# Altium integrated library TUNA_Altium_Lib.IntLib: 69 symbols (part 1 of 2)
Pins are listed as number, name and electrical type; pins without a type are passive.

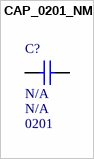
[diagram p0: symbol CAP_0201_NM]

## CAP_0201_NM
designator C?, comment Package / Case: 0201  (hidden comment: CAP 0201)
CAP, size 0201, NM, N/A; Supplier URL: N/A; Tolerance: N/A; Supplier: N/A; Supplier Part Number: N/A; ComponentLink1Description: Datasheet; ComponentLink1URL: N/A; Mount: SMD/SMT; Operating Temperature Max: + 85 C; Operating Temperature Min: - 40 C; Packaging: Tape and Reel; Voltage Rating DC: N/A; Capacitance: N/A
footprint CAP_0201
pins: 1, 2


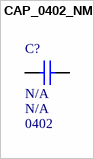
[diagram p1: symbol CAP_0402_NM]

## CAP_0402_NM
designator C?, comment Package / Case: 0402  (hidden comment: CAP 0402)
CAP, size 0402, NM, N/A; Supplier URL: N/A; Tolerance: N/A; Supplier: N/A; Supplier Part Number: N/A; ComponentLink1Description: Datasheet; ComponentLink1URL: N/A; Mount: SMD/SMT; Operating Temperature Max: + 85 C; Operating Temperature Min: - 40 C; Packaging: Tape and Reel; Voltage Rating DC: N/A; Capacitance: N/A
footprint CAP_0402
pins: 1, 2


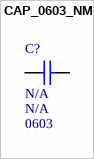
[diagram p2: symbol CAP_0603_NM]

## CAP_0603_NM
designator C?, comment Package / Case: 0603  (hidden comment: CAP_0603)
CAP, size 0603, NM, N/A; Packaging: Tape and Reel; Supplier URL: N/A; Tolerance: N/A; Supplier: N/A; Supplier Part Number: N/A; ComponentLink1Description: Datasheet; ComponentLink1URL: N/A; Mount: SMD/SMT; Operating Temperature Max: + 85 C; Operating Temperature Min: - 40 C; Voltage Rating DC: N/A; Capacitance: N/A
footprint CAP_0603
pins: 1, 2


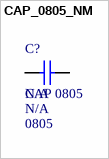
[diagram p3: symbol CAP_0805_NM]

## CAP_0805_NM
designator C?, comment CAP 0805  Package / Case: 0805
CAP, size 0805, NM, N/A; Packaging: Tape and Reel; Supplier 1: N/A; Supplier 1 Part Number: N/A; Supplier 1 URL: N/A; Tolerance: N/A; ComponentLink1Description: Datasheet; ComponentLink1URL: N/A; Mount: SMD/SMT; Operating Temperature Max: + 85 C; Operating Temperature Min: - 40 C; Voltage Rating DC: N/A; Capacitance: N/A
footprint CAP_0805
pins: 1, 2


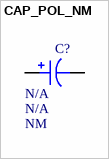
[diagram p4: symbol CAP_POL_NM]

## CAP_POL_NM
designator C?, comment Material: NM  (hidden comment: N/A)
CAP, size NM, NM, N/A; Packaging: Tape and Reel; Supplier URL: N/A; Tolerance: N/A; Supplier: N/A; Supplier Part Number: N/A; ComponentLink1Description: Datasheet; ComponentLink1URL: N/A; Mount: SMD/SMT; Operating Temperature Max: + 85 C; Operating Temperature Min: - 40 C; Package / Case: N/A; Voltage Rating DC: N/A; Capacitance: N/A
footprint CAP TAN 1411 (Molded Capacitor, 2-Leads, Body 3.50x2.80mm, IPC Medium Density)
footprint CAP TAN 1206 (Molded Capacitor, 2-Leads, Body 3.20x1.6mm, IPC Medium Density)
footprint CAP POL 2917 (Molded Capacitor, 2-Leads, Body 7.30x4.30mm, IPC Medium Density)
pins: 1, 2


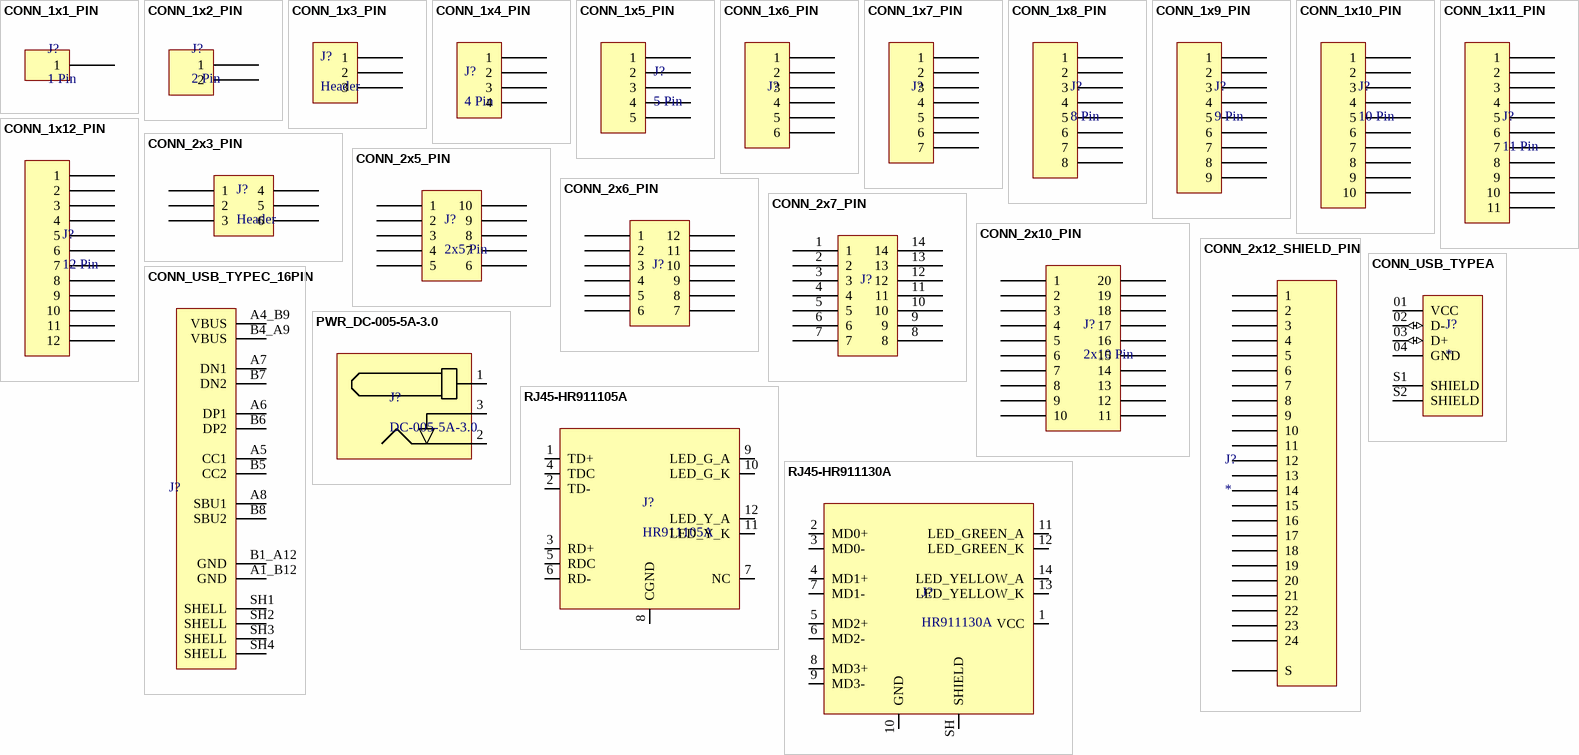
[diagram p5: symbols CONN_1x1_PIN to RJ45-HR911130A]

## CONN_1x1_PIN
designator J?, comment 1 Pin
pins: 1

## CONN_1x2_PIN
designator J?, comment 2 Pin
pins: 1, 2

## CONN_1x3_PIN
designator J?, comment Header
pins: 1, 2, 3

## CONN_1x4_PIN
designator J?, comment 4 Pin
pins: 1, 2, 3, 4

## CONN_1x5_PIN
designator J?, comment 5 Pin
pins: 1, 2, 3, 4, 5

## CONN_1x6_PIN
designator J?
pins: 1, 2, 3, 4, 5, 6

## CONN_1x7_PIN
designator J?
pins: 1, 2, 3, 4, 5, 6, 7

## CONN_1x8_PIN
designator J?, comment 8 Pin
pins: 1, 2, 3, 4, 5, 6, 7, 8

## CONN_1x9_PIN
designator J?, comment 9 Pin
pins: 1, 2, 3, 4, 5, 6, 7, 8, 9

## CONN_1x10_PIN
designator J?, comment 10 Pin
pins: 1, 2, 3, 4, 5, 6, 7, 8, 9, 10

## CONN_1x11_PIN
designator J?, comment 11 Pin
pins: 1, 2, 3, 4, 5, 6, 7, 8, 9, 10, 11

## CONN_1x12_PIN
designator J?, comment 12 Pin
pins: 1, 2, 3, 4, 5, 6, 7, 8, 9, 10, 11, 12

## CONN_2x3_PIN
designator J?, comment Header
pins: 1, 2, 3, 4, 5, 6

## CONN_2x5_PIN
designator J?, comment 2x5 Pin
pins: 1, 2, 3, 4, 5, 6, 7, 8, 9, 10

## CONN_2x6_PIN
designator J?
pins: 1, 2, 3, 4, 5, 6, 7, 8, 9, 10, 11, 12

## CONN_2x7_PIN
designator J?
pins: 1, 2, 3, 4, 5, 6, 7, 8, 9, 10, 11, 12, 13, 14

## CONN_2x10_PIN
designator J?, comment 2x10 Pin
pins: 1, 2, 3, 4, 5, 6, 7, 8, 9, 10, 11, 12, 13, 14, 15, 16, 17, 18, 19, 20

## CONN_2x12_SHIELD_PIN
designator J?
pins: 1, 2, 3, 4, 5, 6, 7, 8, 9, 10, 11, 12, 13, 14, 15, 16, 17, 18, 19, 20, 21, 22, 23, 24, S

## CONN_USB_TYPEA
designator J?
USB Connectors USB 2.0 Interface, Type A; MP: USB-A-S-F-B-TH-TR; MF: Samtec; SnapEDA_Link: https://www.snapeda.com/parts/USB-A-S-F-B-TH-TR/Samtec/view-part/?ref=snap; Package: None; Supplier: N/A; Supply PN: N/A; Supply URL: N/A
footprint CONN_USBA-S-X-X-TH (thegioiic)
pins: 01 VCC (power), 02 D- (io), 03 D+ (io), 04 GND (power), S1 SHIELD, S2 SHIELD

## CONN_USB_TYPEC_16PIN
designator J?  (value not drawn)
USB-C (USB TYPE-C) USB 2.0 Receptacle Connector 24 (16+8 Dummy) Position Surface Mount, Right Angle; Through Hole; MP: USB4105-GF-A; Value: USB-C 2.0 24-Pin (16+8 Dummy); Package: None; Price: None; Availability: Unavailable; ComponentLink1Description: Buy; ComponentLink1URL: https://www.thegioiic.com/cong-usb-cai-3-1-type-c-16-chan-thang-dan-smd; Supplier: N/A; Supplier PN: N/A; Supplier URL: *
footprint CONN_USB_TYPEC_16PIN
pins: A1_B12 GND, A4_B9 VBUS, A5 CC1, A6 DP1, A7 DN1, A8 SBU1, B1_A12 GND, B4_A9 VBUS, B5 CC2, B6 DP2, B7 DN2, B8 SBU2, SH1 SHELL, SH2 SHELL, SH3 SHELL, SH4 SHELL

## PWR_DC-005-5A-3.0
designator J?, comment DC-005-5A-3.0
DC Barrell Jack 6.2mm 5 A3.0mm Through Hole; Supplier: N/A; Supplier Part Number: DC-005-5A-3.0; Supplier URL: N/A
footprint CONN_PWR_DC-005-5A-3.0
pins: 1, 2, 3

## RJ45-HR911105A
designator J?, comment HR911105A
Single Port RJ45 Connector w/ Integrated Magnetic and LED 10/100 Base-T; Manufacturer: HanRun; Manufacturer Part Number: HR911105A
footprint CONN_RJ45_HANRUN_HR911105A
pins: 1 TD+, 2 TD-, 3 RD+, 4 TDC, 5 RDC, 6 RD-, 7 NC, 8 CGND, 9 LED_G_A, 10 LED_G_K, 11 LED_Y_K, 12 LED_Y_A

## RJ45-HR911130A
designator J?, comment HR911130A
Single-Port RJ45 Connector with Integrated Magnetics and LEDs,100/1000Base-T Magnetics; Manufacturer: Hanrun; Manufacturer Part Number: HR911130A
footprint CONN_RJ45_HANRUN_HR911130A
pins: 1 VCC, 2 MD0+, 3 MD0-, 4 MD1+, 5 MD2+, 6 MD2-, 7 MD1-, 8 MD3+, 9 MD3-, 10 GND, 11 LED_GREEN_A, 12 LED_GREEN_K, 13 LED_YELLOW_K, 14 LED_YELLOW_A, SH SHIELD


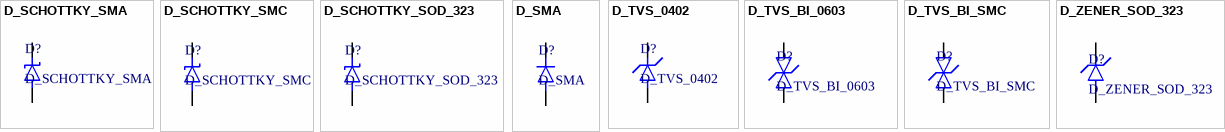
[diagram p6: symbols D_SCHOTTKY_SMA to D_ZENER_SOD_323]

## D_SCHOTTKY_SMA
designator D?
Diode Schottky SMD SMA (DO-214AA)
footprint DO-214AC-2 (SMA)
pins: A, K

## D_SCHOTTKY_SMC
designator D?
Diode Schottky SMD SMC (DO-214AB); Distributor Link: *
footprint SMC-DO-214AB
pins: A, K

## D_SCHOTTKY_SOD_323
designator D?
Diode Schottky SMD SOD-323
footprint SOD-323
pins: A, K

## D_SMA
designator D?
Diode SMD SMA (DO-214AA)
footprint DO-214AC-2 (SMA)
pins: A, K

## D_TVS_0402
designator D?
Diode TVS / ESD 0402
footprint DO_0402
pins: A, K

## D_TVS_BI_0603
designator D?
Diode TVS / ESD Bidirectional 0603; Manufacturer: *; Manufacturer Part Number: *
footprint D_0603
pins: A, K

## D_TVS_BI_SMC
designator D?
Diode TVS / ESD Bidirectional SMC (DO-214AB); Manufacturer: *; Manufacturer Part Number: *; Distributor Link: *
footprint SMC-DO-214AB
pins: A, K

## D_ZENER_SOD_323
designator D?
Diode Zener SMD SOD-323; Supplier URL: N/A
footprint SOD-323
pins: A, K


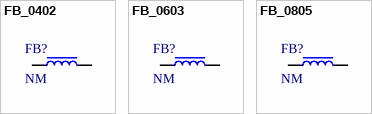
[diagram p7: symbols FB_0402 to FB_0805]

## FB_0402
designator FB?, comment NM
Ferrite Bead SMD 0402; Supplier backup URL: N/A; Packaging: Tape and Reel; Supplier: N/A; Supplier Part Number: N/A; Supplier backup: N/A; Supplier backup Part Number: N/A; Tolerance: N/A; Manufacturer: N/A; Manufacturer Part Number: N/A; ComponentLink1Description: Datasheet; ComponentLink1URL: N/A; Mount: SMD/SMT; Operating Temperature Max: + 85 C; Operating Temperature Min: - 40 C; Package / Case: 0402; Value: NM; Supplier URL: N/A
footprint RES_0201
pins: 1, 2

## FB_0603
designator FB?, comment NM
Ferrite Bead SMD 0603; Supplier backup URL: N/A; Packaging: Tape and Reel; Supplier: N/A; Supplier Part Number: N/A; Supplier backup: N/A; Supplier backup Part Number: N/A; Tolerance: N/A; Manufacturer: N/A; Manufacturer Part Number: N/A; ComponentLink1Description: Datasheet; ComponentLink1URL: N/A; Mount: SMD/SMT; Operating Temperature Max: + 85 C; Operating Temperature Min: - 40 C; Package / Case: 0603; Value: NM; Supplier URL: N/A
footprint FB_0603
pins: 1, 2

## FB_0805
designator FB?, comment NM
Ferrite Bead SMD 0805; Supplier backup URL: N/A; Packaging: Tape and Reel; Supplier: N/A; Supplier Part Number: N/A; Supplier backup: N/A; Supplier backup Part Number: N/A; Tolerance: N/A; Manufacturer: N/A; Manufacturer Part Number: N/A; ComponentLink1Description: Datasheet; ComponentLink1URL: N/A; Mount: SMD/SMT; Operating Temperature Max: + 85 C; Operating Temperature Min: - 40 C; Package / Case: 0805; Value: NM; Supplier URL: N/A
footprint FB_0805
pins: 1, 2


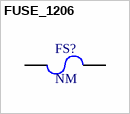
[diagram p8: symbol FUSE_1206]

## FUSE_1206
designator FS?, comment NM
Fuse; Supplier backup URL: N/A; Packaging: Tape and Reel; Supplier: N/A; Supplier Part Number: N/A; Supplier backup: N/A; Supplier backup Part Number: N/A; Tolerance: N/A; Manufacturer: N/A; Manufacturer Part Number: N/A; ComponentLink1Description: Datasheet; ComponentLink1URL: N/A; Mount: SMD/SMT; Operating Temperature Max: + 85 C; Operating Temperature Min: - 40 C; Package / Case: 0402; Value: NM; Supplier URL: N/A
footprint FUSE_1206
footprint FUSE_1812
pins: 1, 2


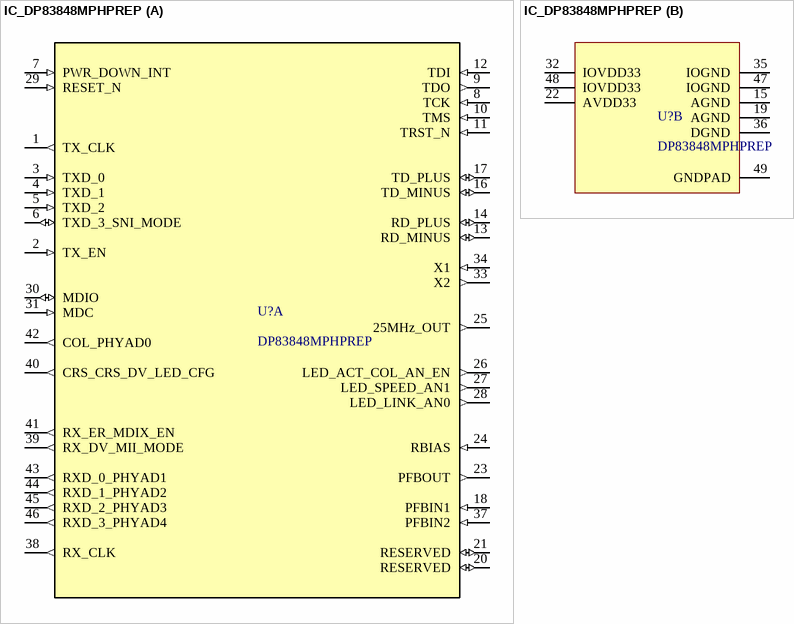
[diagram p9: symbol IC_DP83848MPHPREP]

## IC_DP83848MPHPREP
designator U?, comment DP83848MPHPREP
Enhanced Product PHYTER extreme temperature single port 10/100 Mb/s Ethernet physical layer 48-HTQFP -55 to 125; Manufacturer_Name: Texas Instruments; Alternate_Manufacturer: None; CurrentTime: Not shown in title block; DocumentNumber: 1; SymbolCreator: a0411947; CompType: IC; U/M: EA; Designator: U?; Copyright: Copyright (C) 2025 Ultra Librarian. All rights reserved.; Manufacturer_Part_Number: DP83848MPHPREP; CurrentDate: Not shown in title block; Time: Not shown in title block; Date: Not shown in title block; DocumentFullPathAndName: Not shown in title block; DocumentName: Not shown in title block; ModifiedDate: Not shown in title block; ApprovedBy: Not shown in title block; CheckedBy: Not shown in title block; Author: Not shown in title block; CompanyName: Not shown in title block; Engineer: Not shown in title block; Organization: Not shown in title block; Address1: Not shown in title block; Address2: Not shown in title block; Address3: Not shown in title block; Address4: Not shown in title block; Revision: Use project parameter SCH_Rev; SheetNumber: 1; SheetTotal: 1; ImagePath: Not shown in title block; Rule: *; ProjectName: *; SymbolVersion: 2014-04-03; PartNumber: DP83848MPHPREP; PackageReference: PHP0048F; MountType: SMT; ComponentLink1Description: Datasheet Link; ComponentLink1URL: https://sps06.itg.ti.com/sites/KMS/crossdivteams/altium/docs/ComponentDatasheets/dp83848-ep.pdf; RoHS: Y; Publisher: Texas Instruments; LatestRevisionDate: 2014-04-03; Manufacturer: Texas Instruments; Refdes: Refdes; Type: Type
footprint TI_PHY_DP83848-EP (IC TRANSCEIVER 1/1 48HTQFP)
part A pins: 1 TX_CLK (out), 2 TX_EN (in), 3 TXD_0 (in), 4 TXD_1 (in), 5 TXD_2 (in), 6 TXD_3_SNI_MODE (io), 7 PWR_DOWN_INT (in), 8 TCK (in), 9 TDO (out), 10 TMS (in), 11 TRST_N (in), 12 TDI (in), 13 RD_MINUS (io), 14 RD_PLUS (io), 16 TD_MINUS (io), 17 TD_PLUS (io), 18 PFBIN1 (in), 20 RESERVED (io), 21 RESERVED (io), 23 PFBOUT (out), 24 RBIAS (in), 25 25MHz_OUT (out), 26 LED_ACT_COL_AN_EN (out), 27 LED_SPEED_AN1 (out), 28 LED_LINK_AN0 (out), 29 RESET_N (in), 30 MDIO (io), 31 MDC (in), 33 X2 (out), 34 X1 (in), 37 PFBIN2 (in), 38 RX_CLK (out), 39 RX_DV_MII_MODE (out), 40 CRS_CRS_DV_LED_CFG (out), 41 RX_ER_MDIX_EN (out), 42 COL_PHYAD0 (out), 43 RXD_0_PHYAD1 (out), 44 RXD_1_PHYAD2 (out), 45 RXD_2_PHYAD3 (out), 46 RXD_3_PHYAD4 (out)
part B pins: 15 AGND (power), 19 AGND (power), 22 AVDD33 (power), 32 IOVDD33 (power), 35 IOGND (power), 36 DGND (power), 47 IOGND (power), 48 IOVDD33 (power), 49 GNDPAD (power)


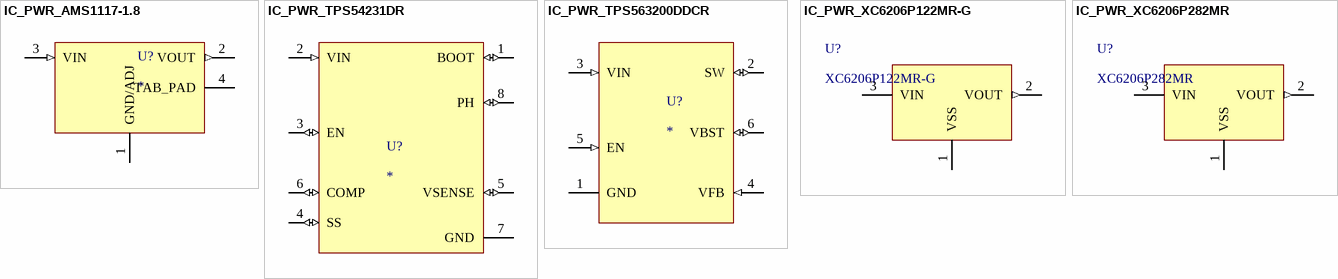
[diagram p10: symbols IC_PWR_AMS1117-1.8 to IC_PWR_XC6206P282MR]

## IC_PWR_AMS1117-1.8
designator U?
1.8V 1A  Adjustable/Fixed Low Dropout Linear Regulator; MP: AMS1117-1.8; Package: None; Price: None; Value: *; Availability: Unavailable
footprint PKG_SOT-233
pins: 1 GND/ADJ (power), 2 VOUT (out), 3 VIN (in), 4 TAB_PAD

## IC_PWR_TPS54231DR
designator U?
3.5 to 28V Input, 2A, 570kHz Step-Down Converter with Eco-modeâ„¢; Package: SOIC-8 Texas Instruments; Supplier: *; Supplier Part Number: *; Supplier URL: *
footprint PKG_SOIC-8 (SOIC, 8-Leads, Body 4.91x3.90mm, Pitch 1.27mm, IPC Medium Density)
pins: 1 BOOT (io), 2 VIN (in), 3 EN (io), 4 SS (io), 5 VSENSE (io), 6 COMP (io), 7 GND (power), 8 PH (io)

## IC_PWR_TPS563200DDCR
designator U?
17 V Input, 3A Synchronous Step-Down Regulator in SOT-23 with Advanced Eco-modeâ„¢; MF: Texas Instruments; MP: TPS563200DDCR; SnapEDA_Link: https://www.snapeda.com/parts/TPS563200DDCR/Texas+Instruments/view-part/?ref=snap; Package: SOT-23-THN-6 Texas Instruments; Value: *; Check_prices: https://www.snapeda.com/parts/TPS563200DDCR/Texas+Instruments/view-part/?ref=eda
footprint PKG_SOT-23-6
pins: 1 GND (power), 2 SW (io), 3 VIN (in), 4 VFB (in), 5 EN (in), 6 VBST (io)

## IC_PWR_XC6206P122MR-G
designator U?, comment XC6206P122MR-G
IC REG LINEAR 1.2V 60MA SOT23; Manufacturer_Name: Torex Semiconductor; Copyright: Copyright (C) 2025 Ultra Librarian. All rights reserved.; Manufacturer_Part_Number: XC6206P122MR-G; RefDes: RefDes; Type: Type
footprint PKG_SOT-23-3
pins: 1 VSS (power), 2 VOUT (out), 3 VIN (power)

## IC_PWR_XC6206P282MR
designator U?, comment XC6206P282MR
IC REG LINEAR 2.8V 100MA SOT23; Manufacturer_Name: Torex Semiconductor; Manufacturer_Part_Number: XC6206P122MR-G; Copyright: Copyright (C) 2025 Ultra Librarian. All rights reserved.; RefDes: RefDes; Type: Type
footprint PKG_SOT-23-3
pins: 1 VSS (power), 2 VOUT (out), 3 VIN (power)


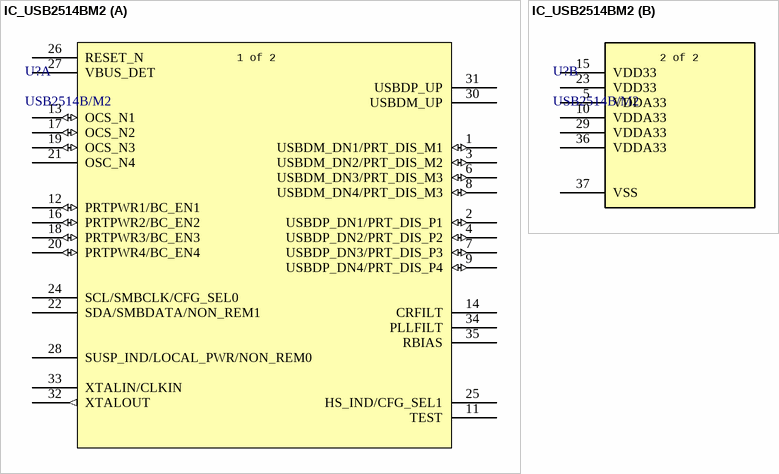
[diagram p11: symbol IC_USB2514BM2]

## IC_USB2514BM2
designator U?, comment USB2514B/M2
Description; Manufacturer_Name: Microchip; Copyright: Copyright (C) 2025 Ultra Librarian. All rights reserved.; Manufacturer_Part_Number: USB2514B/M2; RefDes: RefDes; Type: Type
footprint MC_MCU_USB2514BM2 (IC HUB CTLR 4PORT USB 2.0 HS 36S)
part A pins: 1 USBDM_DN1/PRT_DIS_M1 (io), 2 USBDP_DN1/PRT_DIS_P1 (io), 3 USBDM_DN2/PRT_DIS_M2 (io), 4 USBDP_DN2/PRT_DIS_P2 (io), 6 USBDM_DN3/PRT_DIS_M3 (io), 7 USBDP_DN3/PRT_DIS_P3 (io), 8 USBDM_DN4/PRT_DIS_M3 (io), 9 USBDP_DN4/PRT_DIS_P4 (io), 11 TEST, 12 PRTPWR1/BC_EN1 (io), 13 OCS_N1 (io), 14 CRFILT, 16 PRTPWR2/BC_EN2 (io), 17 OCS_N2 (io), 18 PRTPWR3/BC_EN3 (io), 19 OCS_N3 (io), 20 PRTPWR4/BC_EN4 (io), 21 OSC_N4, 22 SDA/SMBDATA/NON_REM1, 24 SCL/SMBCLK/CFG_SEL0, 25 HS_IND/CFG_SEL1, 26 RESET_N, 27 VBUS_DET, 28 SUSP_IND/LOCAL_PWR/NON_REM0, 30 USBDM_UP, 31 USBDP_UP, 32 XTALOUT (out), 33 XTALIN/CLKIN, 34 PLLFILT, 35 RBIAS
part B pins: 5 VDDA33 (power), 10 VDDA33 (power), 15 VDD33 (power), 23 VDD33 (power), 29 VDDA33 (power), 36 VDDA33 (power), 37 VSS (power)
part A text: 1 of 2
part B text: 2 of 2


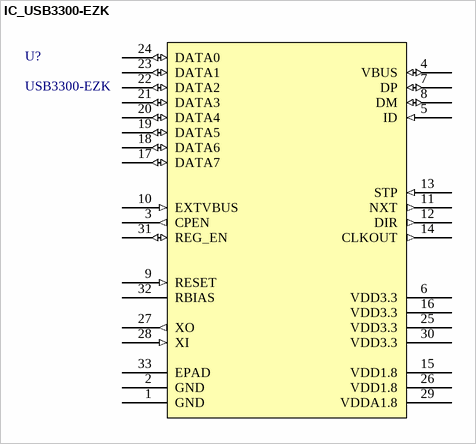
[diagram p12: symbol IC_USB3300-EZK]

## IC_USB3300-EZK
designator U?, comment USB3300-EZK
Description; Manufacturer_Name: Microchip; Copyright: Copyright (C) 2025 Ultra Librarian. All rights reserved.; Manufacturer_Part_Number: USB3300-EZK; RefDes: RefDes; Type: Type
footprint PKG_QFN-32-5X5
pins: 1 GND (power), 2 GND (power), 3 CPEN (out), 4 VBUS (io), 5 ID (in), 6 VDD3.3 (power), 7 DP (io), 8 DM (io), 9 RESET (in), 10 EXTVBUS (in), 11 NXT (out), 12 DIR (out), 13 STP (in), 14 CLKOUT (out), 15 VDD1.8 (power), 16 VDD3.3 (power), 17 DATA7 (io), 18 DATA6 (io), 19 DATA5 (io), 20 DATA4 (io), 21 DATA3 (io), 22 DATA2 (io), 23 DATA1 (io), 24 DATA0 (io), 25 VDD3.3 (power), 26 VDD1.8 (power), 27 XO (out), 28 XI (in), 29 VDDA1.8 (power), 30 VDD3.3 (power), 31 REG_EN (io), 32 RBIAS, 33 EPAD


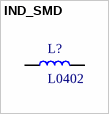
[diagram p13: symbol IND_SMD]

## IND_SMD
designator L?, comment L0402
Inductor SMD; Inductance: NM; Current: NM; Supplier: NM; Supplier Part Number: NM; Supplier URL: NM
footprint IND_0402
footprint IND_0603
footprint IND_BOURNS_SRN8040
pins: 1, 2


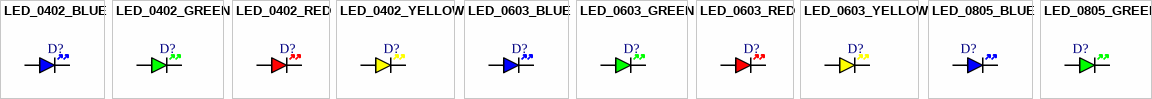
[diagram p14: symbols LED_0402_BLUE to LED_0805_GREEN]

## LED_0402_BLUE
designator D?, comment BLUE  (value not drawn)
LED 0402 BLUE SMD; COLOR: BLUE; SIZE: 0402; Supplier: N/A; Supplier Part Number: N/A; Supplier URL: N/A
footprint LED_0402_BLUE
pins: A, K

## LED_0402_GREEN
designator D?, comment BLUE  (value not drawn)
LED 0402 GREEN SMD; COLOR: GREEN; SIZE: 0402; Supplier: N/A; Supplier Part Number: N/A; Supplier URL: N/A
footprint LED_0402_GREEN
pins: A, K

## LED_0402_RED
designator D?, comment RED  (value not drawn)
LED 0402 RED SMD; COLOR: RED; SIZE: 0402; Supplier: N/A; Supplier Part Number: N/A; Supplier URL: N/A
footprint LED_0402_RED
pins: A, K

## LED_0402_YELLOW
designator D?, comment YELLOW  (value not drawn)
LED 0402 YELLOW SMD; COLOR: YELLOW; SIZE: 0402; Supplier: N/A; Supplier Part Number: N/A; Supplier URL: N/A
footprint LED_0402_YELLOW
pins: A, K

## LED_0603_BLUE
designator D?, comment BLUE  (value not drawn)
LED 0603 BLUE SMD; COLOR: BLUE; SIZE: 0603; Supplier: N/A; Supplier Part Number: N/A; Supplier URL: N/A
footprint LED_0603_BLUE
pins: A, K

## LED_0603_GREEN
designator D?, comment GREEN  (value not drawn)
LED 0603 GREEN SMD; COLOR: GREEN; SIZE: 0603; Supplier: N/A; Supplier Part Number: N/A; Supplier URL: N/A
footprint LED_0603_GREEN
pins: A, K

## LED_0603_RED
designator D?, comment RED  (value not drawn)
LED 0603 RED SMD; COLOR: RED; SIZE: 0603; Supplier: N/A; Supplier Part Number: N/A; Supplier URL: N/A
footprint LED_0603_BLUE
pins: A, K

## LED_0603_YELLOW
designator D?, comment YELLOW  (value not drawn)
LED 0603 YELLOW SMD; COLOR: YELLOW; SIZE: 0603; Supplier: N/A; Supplier Part Number: N/A; Supplier URL: N/A
footprint LED_0603_YELLOW
pins: A, K

## LED_0805_BLUE
designator D?, comment BLUE  (value not drawn)
LED 0805 BLUE SMD; Manufacturer: *; Manufacturer Part Number: *; Distributor Link: *; LCSC: *
footprint LED_0805_BLUE
pins: A, K

## LED_0805_GREEN
designator D?, comment GREEN  (value not drawn)
LED 0805 GREEN SMD; Manufacturer: *; Manufacturer Part Number: *; Distributor Link: *; LCSC: *
footprint LED_0805_GREEN
pins: A, K


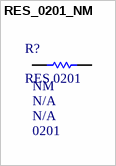
[diagram p15: symbol RES_0201_NM]

## RES_0201_NM
designator R?, comment RES 0201  Package / Case: 0201  Resistance: NM
RES, size 0201, NM, N/A; Supplier backup URL: N/A; Packaging: Tape and Reel; Supplier: N/A; Supplier Part Number: N/A; Supplier backup: N/A; Supplier backup Part Number: N/A; Manufacturer: N/A; Manufacturer Part Number: N/A; ComponentLink1Description: Datasheet; ComponentLink1URL: N/A; Mount: SMD/SMT; Operating Temperature Max: + 85 C; Operating Temperature Min: - 40 C; LCSC Part #: N/A; Supplier URL: N/A; Tolerance: N/A; Rated Power: N/A
footprint RES_0201
pins: 1, 2


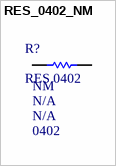
[diagram p16: symbol RES_0402_NM]

## RES_0402_NM
designator R?, comment RES 0402  Package / Case: 0402  Resistance: NM
RES, size 0402, NM, N/A; Supplier backup URL: N/A; Packaging: Tape and Reel; Supplier: N/A; Supplier Part Number: N/A; Supplier backup: N/A; Supplier backup Part Number: N/A; Manufacturer: N/A; Manufacturer Part Number: N/A; ComponentLink1Description: Datasheet; ComponentLink1URL: N/A; Mount: SMD/SMT; Operating Temperature Max: + 85 C; Operating Temperature Min: - 40 C; LCSC Part #: N/A; Supplier URL: N/A; Tolerance: N/A; Rated Power: N/A
footprint RES_0402
pins: 1, 2


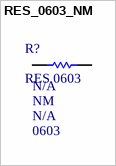
[diagram p17: symbol RES_0603_NM]

## RES_0603_NM
designator R?, comment RES 0603  Resistance: NM  Package / Case: 0603
RES, size 0603, NM, N/A; Supplier backup URL: N/A; Packaging: Tape and Reel; Supplier: N/A; Supplier Part Number: N/A; Supplier backup: N/A; Supplier backup Part Number: N/A; Manufacturer: N/A; Manufacturer Part Number: N/A; ComponentLink1Description: Datasheet; ComponentLink1URL: N/A; Mount: SMD/SMT; Operating Temperature Max: + 85 C; Operating Temperature Min: - 40 C; Supplier URL: N/A; Tolerance: N/A; Rated Power: N/A
footprint RES_0603 (Chip Resistor, 2-Leads, Body 1.55x0.85mm, IPC Medium Density)
pins: 1, 2


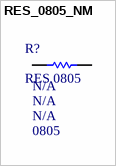
[diagram p18: symbol RES_0805_NM]

## RES_0805_NM
designator R?, comment RES 0805  Package / Case: 0805
RES, size 0805, NM, N/A; Supplier 1 URL: N/A; Supplier 2 URL: N/A; Supplier 3 URL: N/A; Packaging: Tape and Reel; Supplier: N/A; Supplier Part Number: N/A; Supplier backup: N/A; Supplier backup Part Number: N/A; Manufacturer: N/A; Manufacturer Part Number: N/A; ComponentLink1Description: Datasheet; ComponentLink1URL: N/A; Mount: SMD/SMT; Operating Temperature Max: + 85 C; Operating Temperature Min: - 40 C; LCSC Part #: N/A; Tolerance: N/A; Resistance: N/A; Rated Power: N/A
footprint RES_0805 (Chip Resistor, 2-Leads, Body 2.05x1.25mm, IPC Medium Density)
pins: 1, 2


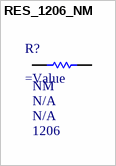
[diagram p19: symbol RES_1206_NM]

## RES_1206_NM
designator R?  Package / Case: 1206  Resistance: NM
RES, size 1206, NM, N/A; Supplier backup URL: N/A; Packaging: Tape and Reel; Supplier: N/A; Supplier Part Number: N/A; Supplier backup: N/A; Supplier backup Part Number: N/A; Manufacturer: N/A; Manufacturer Part Number: N/A; ComponentLink1Description: Datasheet; ComponentLink1URL: N/A; Mount: SMD/SMT; Operating Temperature Max: + 85 C; Operating Temperature Min: - 40 C; LCSC Part #: N/A; Supplier URL: N/A; Tolerance: N/A; Rated Power: N/A
footprint RES_1206 (Chip Resistor, 2-Leads, Body 3.15x1.65mm, IPC Medium Density)
pins: 1, 2


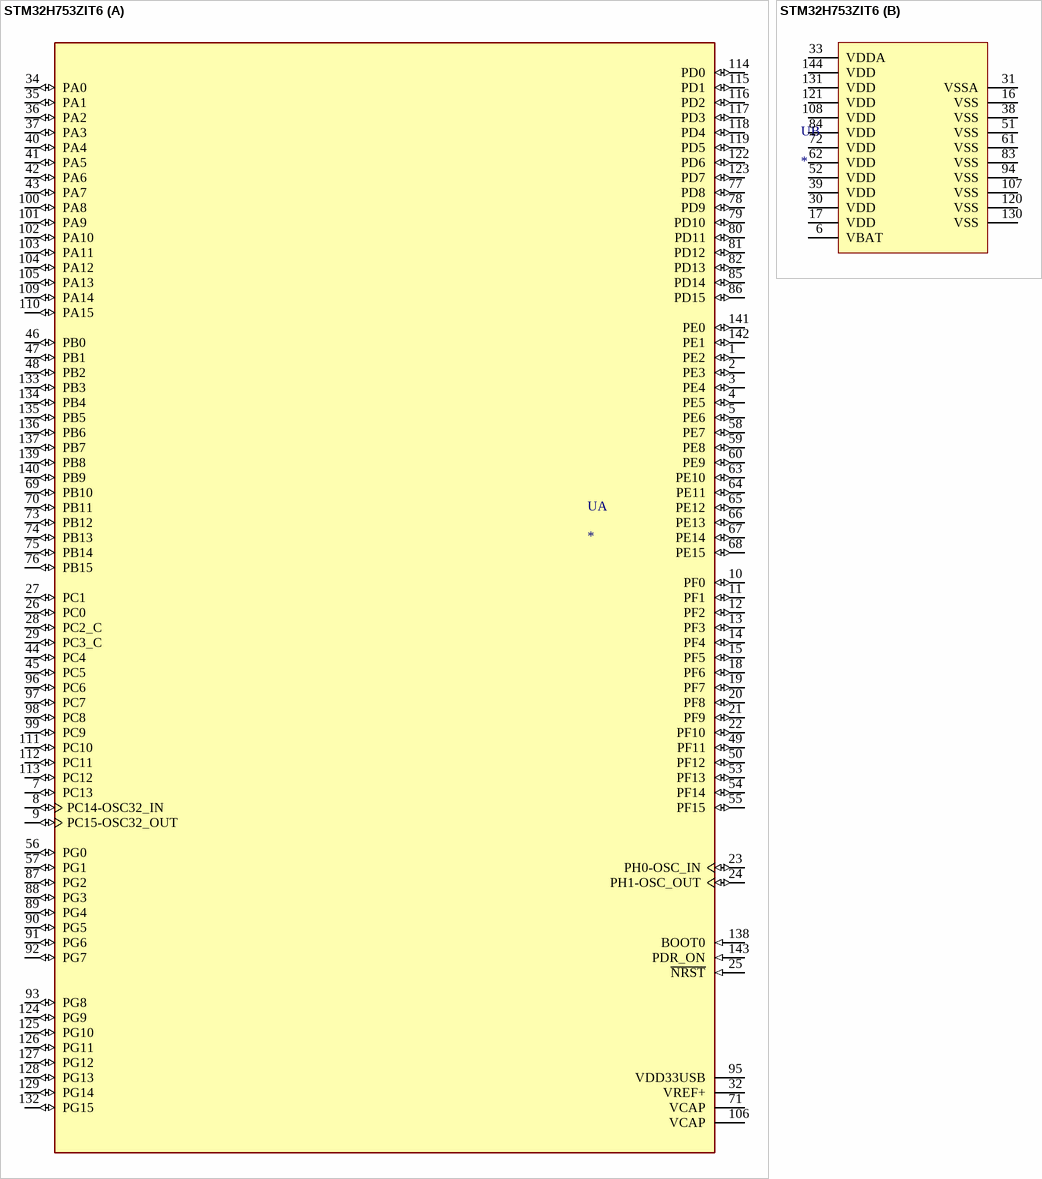
[diagram p20: symbol STM32H753ZIT6]

## STM32H753ZIT6
designator U
ARMÂ® CortexÂ®-M7 STM32H7 Microcontroller IC 32-Bit 480MHz 2MB _2M x 8_ FLASH 144-LQFP _20x20_; MF: STMicroelectronics; MP: STM32H753ZIT6; Package: LQFP-144 STMicroelectronics; Value: *; SnapEDA_Link: https://www.snapeda.com/parts/STM32H753ZIT6/STMicroelectronics/view-part/2461811/?ref=snap; Supplier: Mouser; Supplier URL: https://www.mouser.vn/ProductDetail/STMicroelectronics/STM32H753ZIT6?qs=u4fy%2FsgLU9PzR9vtNNw%2FMw%3D%3D; ComponentLink1Description: Datasheet; ComponentLink1URL: https://www.st.com/resource/en/datasheet/stm32h753vi.pdf
footprint ST_MCU_STM32H753ZIT6_LQFP144 (ARM® Cortex®-M7 STM32H7 Microcontroller IC 32-Bit 480MHz 2MB (2M x 8) FLASH 144-LQFP (20x20))
part A pins: 1 PE2 (io), 2 PE3 (io), 3 PE4 (io), 4 PE5 (io), 5 PE6 (io), 7 PC13 (io), 8 PC14-OSC32_IN (io), 9 PC15-OSC32_OUT (io), 10 PF0 (io), 11 PF1 (io), 12 PF2 (io), 13 PF3 (io), 14 PF4 (io), 15 PF5 (io), 18 PF6 (io), 19 PF7 (io), 20 PF8 (io), 21 PF9 (io), 22 PF10 (io), 23 PH0-OSC_IN (io), 24 PH1-OSC_OUT (io), 25 ~{NRST} (in), 26 PC0 (io), 27 PC1 (io), 28 PC2_C (io), 29 PC3_C (io), 32 VREF+ (power), 34 PA0 (io), 35 PA1 (io), 36 PA2 (io), 37 PA3 (io), 40 PA4 (io), 41 PA5 (io), 42 PA6 (io), 43 PA7 (io), 44 PC4 (io), 45 PC5 (io), 46 PB0 (io), 47 PB1 (io), 48 PB2 (io), 49 PF11 (io), 50 PF12 (io), 53 PF13 (io), 54 PF14 (io), 55 PF15 (io), 56 PG0 (io), 57 PG1 (io), 58 PE7 (io), 59 PE8 (io), 60 PE9 (io), 63 PE10 (io), 64 PE11 (io), 65 PE12 (io), 66 PE13 (io), 67 PE14 (io), 68 PE15 (io), 69 PB10 (io), 70 PB11 (io), 71 VCAP (power), 73 PB12 (io), 74 PB13 (io), 75 PB14 (io), 76 PB15 (io), 77 PD8 (io), 78 PD9 (io), 79 PD10 (io), 80 PD11 (io), 81 PD12 (io), 82 PD13 (io), 85 PD14 (io), 86 PD15 (io), 87 PG2 (io), 88 PG3 (io), 89 PG4 (io), 90 PG5 (io), 91 PG6 (io), 92 PG7 (io), 93 PG8 (io), 95 VDD33USB (power), 96 PC6 (io), 97 PC7 (io), 98 PC8 (io), 99 PC9 (io), 100 PA8 (io), 101 PA9 (io), 102 PA10 (io), 103 PA11 (io), 104 PA12 (io), 105 PA13 (io), 106 VCAP (power), 109 PA14 (io), 110 PA15 (io), 111 PC10 (io), 112 PC11 (io), 113 PC12 (io), 114 PD0 (io), 115 PD1 (io), 116 PD2 (io), 117 PD3 (io), 118 PD4 (io), 119 PD5 (io), 122 PD6 (io), 123 PD7 (io), 124 PG9 (io), 125 PG10 (io), 126 PG11 (io), 127 PG12 (io), 128 PG13 (io), 129 PG14 (io), 132 PG15 (io), 133 PB3 (io), 134 PB4 (io), 135 PB5 (io), 136 PB6 (io), 137 PB7 (io), 138 BOOT0 (in), 139 PB8 (io), 140 PB9 (io), 141 PE0 (io), 142 PE1 (io), 143 PDR_ON (in)
part B pins: 6 VBAT (power), 16 VSS (power), 17 VDD (power), 30 VDD (power), 31 VSSA (power), 33 VDDA (power), 38 VSS (power), 39 VDD (power), 51 VSS (power), 52 VDD (power), 61 VSS (power), 62 VDD (power), 72 VDD (power), 83 VSS (power), 84 VDD (power), 94 VSS (power), 107 VSS (power), 108 VDD (power), 120 VSS (power), 121 VDD (power), 130 VSS (power), 131 VDD (power), 144 VDD (power)


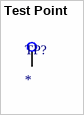
[diagram p21: symbol Test Point]

## Test Point
designator TP?
pins: 1 TP


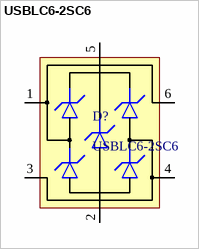
[diagram p22: symbol USBLC6-2SC6]

## USBLC6-2SC6
designator D?
Low-Capacitance ESD Protection USB; Manufacturer: STMicroelectronics; Manufacturer Part Number: USBLC6-2SC6; Distributor Link: https://www.mouser.de/ProductDetail/STMicroelectronics/USBLC6-2SC6?qs=po45yt2pPpu%2FhNIlwQdTlg%3D%3D
footprint PKG_SOT-23-6
pins: 1 IO1 (io), 2 GND (power), 3 IO2 (io), 4 IO2 (io), 5 VBUS (power), 6 IO1 (io)
